# EAGLE library part CON06 (library 2_54mmConnectors)
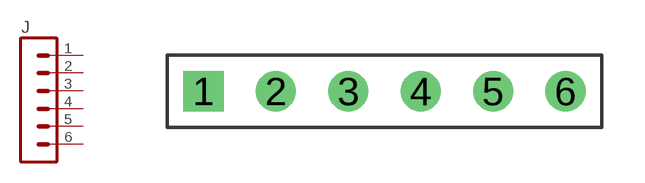
[diagram p0: symbol with the pads of 6_CONN_2_54; footprint 6_CONN_2_54]

Designator prefix J

## CON06  [6_CONN_2_54]
1  1  pas
2  2  pas
3  3  pas
4  4  pas
5  5  pas
6  6  pas

## Footprint 6_CONN_2_54 (pad centres in mm)
drill 0.9 square: 1 -6.35,0
drill 0.9: 2 -3.81,0; 3 -1.27,0; 4 1.27,0; 5 3.81,0; 6 6.35,0